# Altium schematic symbol library PTS645SM43SMTR.SchLib: 1 symbol
Pins are listed as number, name and electrical type; pins without a type are passive.

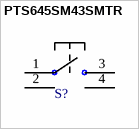
[diagram p0: symbol PTS645SM43SMTR]

## PTS645SM43SMTR
designator S?  (value not drawn)
Switch Tact 6mm 100gf h=4.3mm; MF: C&K Components; MP: PTS645SM43SMTR; Package: None; Price: 0.38 USD; Availability: Unavailable; SnapEDA_Link: https://www.snapeda.com/parts/PTS645SM43SMTR/C%26K%20Components/view-part/?ref=snap; Value: *
footprint PTS645SM43SMTR
pins: 1 P$1, 2 P$1, 3 P$2, 4 P$2